# EAGLE library part M95M01-DWDW3TP/K (library my-STMicroelectronics)
EEPROM Auto 1024Kb SPI bus EEPROM
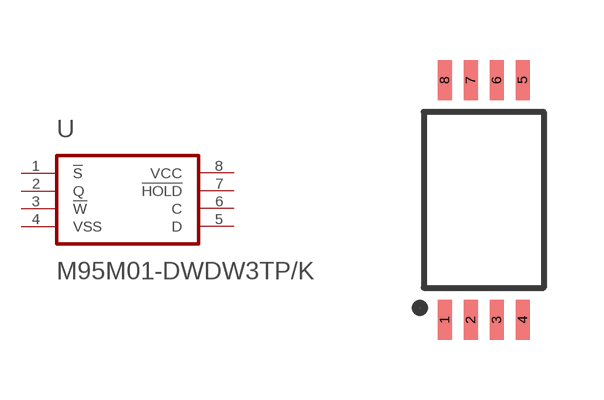
[diagram p0: symbol with the pads of TSSOP-8; footprint TSSOP-8]

Designator prefix -

## M95M01-DWDW3TP/K  [TSSOP-8]
1  !S
2  Q
3  !W
4  VSS
5  D
6  C
7  !HOLD
8  VCC

## Footprint TSSOP-8 (pad centres in mm)
smd 0.35 x 1: 1 -0.975,-3; 2 -0.325,-3; 3 0.325,-3; 4 0.975,-3; 5 0.975,3; 6 0.325,3; 7 -0.325,3; 8 -0.975,3